# Altium schematic symbol library Diode Schottky.SchLib: 10 symbols
Pins are listed as number, name and electrical type; pins without a type are passive.

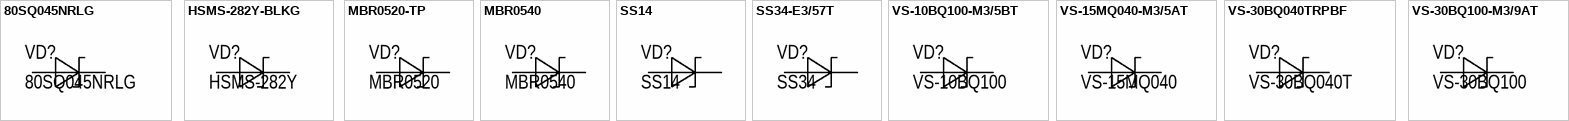
[diagram p0: symbols 80SQ045NRLG to VS-30BQ100-M3/9AT]

## 80SQ045NRLG
designator VD?
Diode Schottky 40 V 3A Surface Mount DO-214AB (SMC); Manufacture: onsemi; Name: Диод Шоттки; Case: AXIAL; HelpURL: https://www.digikey.com/en/products/detail/onsemi/80SQ045NRLG/920478?s=N4IgTCBcDaIBwAYDKBFBAWArAOQEoBkBxAAhAF0BfIA; Value: 80SQ045NRLG; Model: 80SQ045NRLG
footprint AXIAL d5xh9
footprint AXIAL d5xh9 (R)
pins: 1 A, 2 C

## HSMS-282Y-BLKG
designator VD?, comment HSMS-282Y
Diode Schottky - Single 15V 1 A SOD-523; Manufacture: Broadcom Limited; Model: HSMS-282Y-BLKG; Name: Диод Шоттки; Case: SOD-523; HelpURL: https://www.digikey.com/en/products/detail/broadcom-limited/HSMS-282Y-BLKG/1233568; Value: HSMS-282Y
footprint SOD-523
pins: 1 A, 2 C

## MBR0520-TP
designator VD?, comment MBR0520
Diode Schottky 20 V 500mA Surface Mount SOD-123; Manufacture: Micro Commercial Co; Model: MBR0520-TP; Name: Диод Шоттки; Case: SOD-123; HelpURL: https://www.digikey.com/en/products/detail/micro-commercial-co/MBR0520-TP/717250; Value: MBR0520
footprint SOD-123
pins: 1 A, 2 C

## MBR0540
designator VD?
Diode Schottky 40 V 500mA Surface Mount SOD-123; Manufacture: onsemi; Name: Диод Шоттки; Case: SOD-123; HelpURL: https://www.digikey.com/en/products/detail/onsemi/MBR0540/1048787; Value: MBR0540; Model: MBR0540
footprint SOD-123
pins: 1 A, 2 C

## SS14
designator VD?
Diode Schottky 40 V 1A Surface Mount DO-214AC (SMA); Manufacture: onsemi; Name: Диод Шоттки; Case: DO-214AC (SMA); HelpURL: https://www.digikey.com/en/products/detail/onsemi/SS14/965474; Value: SS14; Model: SS14
footprint DO-214AC, SMA
pins: 1 A, 2 C

## SS34-E3/57T
designator VD?, comment SS34
Diode Schottky 40 V 3A Surface Mount DO-214AB (SMC); Manufacture: Vishay General Semiconductor - Diodes Division; Model: SS34-E3/57T; Name: Диод Шоттки; Case: DO-214AB, SMC; HelpURL: https://www.digikey.com/en/products/detail/vishay-general-semiconductor-diodes-division/SS34-E3-57T/1091554?s=N4IgTCBcDaIMpwMwBYC0BRRB6ArAdgBUQBdAXyA; Value: SS34
footprint DO-214AB (SMC)
pins: 1 A, 2 C

## VS-10BQ100-M3/5BT
designator VD?, comment VS-10BQ100
Diode Schottky 100 V 1A Surface Mount DO-214AA (SMB); Manufacture: Vishay General Semiconductor - Diodes Division; Model: VS-10BQ100-M3/5BT; Name: Диод Шоттки; Case: DO-214AA, SMB; HelpURL: https://www.digikey.com/en/products/detail/vishay-general-semiconductor-diodes-division/VS-10BQ100-M3-5BT/4933509?s=N4IgTCBcDaIG4GcC0BGADAIwI7rUgtgMwD0ArBgC4gC6AvkA; Value: VS-10BQ100
footprint DO-214AA, SMB
pins: 1 A, 2 C

## VS-15MQ040-M3/5AT
designator VD?, comment VS-15MQ040
Diode Schottky 40 V 1.5A Surface Mount DO-214AC (SMA); Manufacture: Vishay General Semiconductor - Diodes Division; Model: VS-15MQ040-M3/5AT; Name: Диод Шоттки; Case: DO-214AC (SMA); HelpURL: https://www.digikey.com/en/products/detail/vishay-general-semiconductor-diodes-division/VS-15MQ040-M3-5AT/4933593?s=N4IgTCBcDaIGoGUC0BGArAWQIoAYAsOSGAzAPRoCCAKiALoC%2BQA; Value: VS-15MQ040
footprint DO-214AC, SMA
pins: 1 A, 2 C

## VS-30BQ040TRPBF
designator VD?, comment VS-30BQ040T
Diode Schottky 40 V 3A Surface Mount DO-214AB (SMC); Manufacture: Vishay General Semiconductor - Diodes Division; Model: VS-30BQ040TRPBF; Name: Диод Шоттки; Case: DO-214AB, SMC; HelpURL: https://www.digikey.com/en/products/detail/vishay-general-semiconductor-diodes-division/VS-30BQ040TRPBF/811449?s=N4IgTCBcDaIGoGUC0BmADAIQIpoCxoBUAlABQwDEQBdAXyA; Value: VS-30BQ040T
footprint DO-214AB (SMC)
pins: 1 A, 2 C

## VS-30BQ100-M3/9AT
designator VD?, comment VS-30BQ100
Diode Schottky 45 V 8A Through Hole Axial; Manufacture: Vishay General Semiconductor - Diodes Division; Model: VS-30BQ100-M3/9AT; Name: Диод Шоттки; Case: DO-214AB, SMC; HelpURL: https://www.digikey.com/en/products/detail/vishay-general-semiconductor-diodes-division/VS-30BQ100-M3-9AT/4933668; Value: VS-30BQ100
footprint DO-214AB (SMC)
pins: 1 A, 2 C